# Altium schematic symbol library LDO_Stab.SchLib: 1 symbol
Pins are listed as number, name and electrical type; pins without a type are passive.

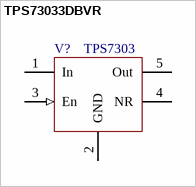
[diagram p0: symbol TPS73033DBVR]

## TPS73033DBVR
designator V?, comment TPS7303
200-mA Low-Dropout Linear Regulators, SOT-23-5
footprint SOT95P245X145-5N (SOT23, 5-Leads, Body 2,90x2,45mm, Pitch 0,95mm, IPC Medium Density)
pins: 1 In (power), 2 GND (power), 3 En (in), 4 NR, 5 Out (power)